# Altium footprint library BH-18650-PC.PcbLib: 2 footprints
Each footprint in its own frame and in the unit in brackets; x right, y up, seen from the top. Pads: shape width x height; smd on the part's side, far side on the other; paste and mask are expansions set on the pad; w line width, h text height; cw(c..) or ccw(c..) is an arc to the next point about the centre after c.
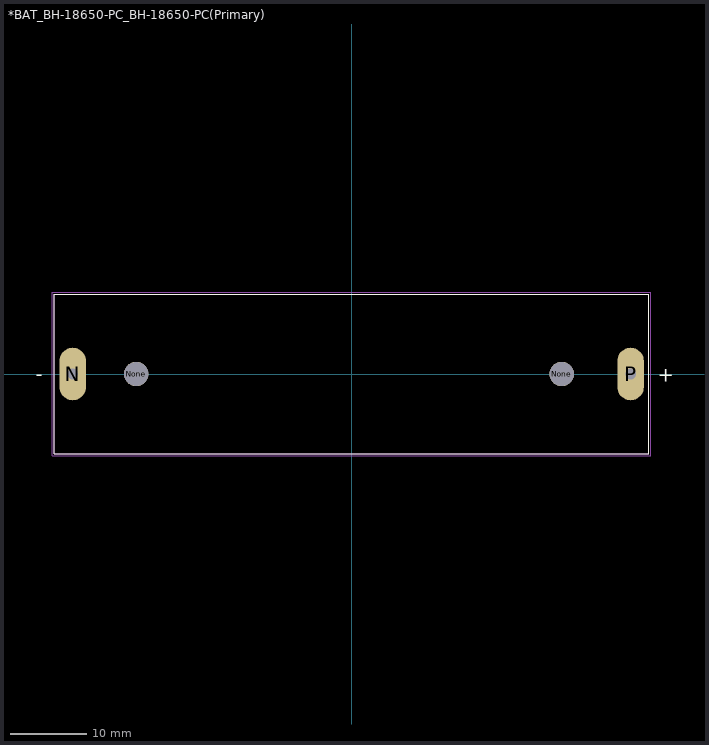
[diagram p0: the footprints below, top view; thin cyan lines are the x and y axes]

## *BAT_BH-18650-PC_BH-18650-PC(Primary) [mm]
pads (4):
  oval 3.44x6.88 hole 1.38: N(-36.45,0) P(36.45,0)
  round 3.2 hole 3.2 unplated: None(-28.17,0) None(27.44,0)
Top Overlay:
  lines w0.127: -38.85,-10.45 38.85,-10.45 38.85,10.45 -38.85,10.45 -38.85,-10.45
  text "-" at -41.275,-0.885 h1.88
  text "+" at 40.005,-1.012 h1.88
Mechanical 1:
  lines w0: -37.14,-1.2 -35.76,-1.2 -35.76,1.2 -37.14,1.2 -37.14,-1.2 ; 35.76,-1.2 37.14,-1.2 37.14,1.2 35.76,1.2 35.76,-1.2
Mechanical 4:
  lines w0.127: -38.85,-10.45 38.85,-10.45 ; -38.85,-10.45 -38.85,10.45 ; -38.85,-10.45 38.85,-10.45 ; -38.85,-10.45 -38.85,10.45 ; -38.85,10.45 38.85,10.45 ; -38.85,10.45 38.85,10.45 ; 38.85,-10.45 38.85,10.45 ; 38.85,-10.45 38.85,10.45
  text "-" at -41.275,-0.885 h1.88
  text "+" at 40.005,-1.012 h1.88
  text "-" at -41.275,-0.885 h1.88
  text "+" at 40.005,-1.012 h1.88
Mechanical 16:
  lines w0.05: -39.1,-10.7 39.1,-10.7 39.1,10.7 -39.1,10.7 -39.1,-10.7

## PCBComponent_1 [mm]